# Altium footprint library AB5301A.PcbLib: 18 footprints (part 2 of 2)
Each footprint in its own frame and in the unit in brackets; x right, y up, seen from the top. Pads: shape width x height; smd on the part's side, far side on the other; paste and mask are expansions set on the pad; w line width, h text height; cw(c..) or ccw(c..) is an arc to the next point about the centre after c.
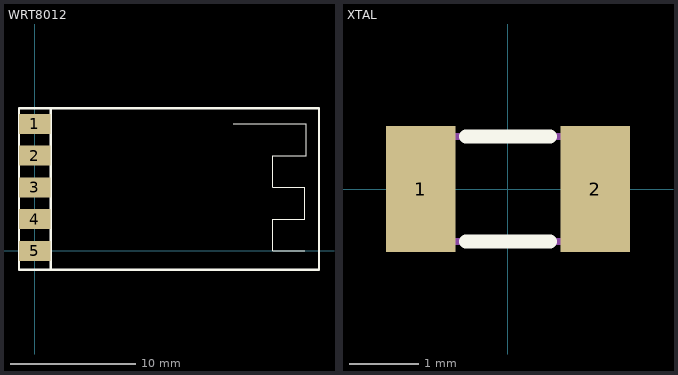
[diagram p1: the footprints below, top view; thin cyan lines are the x and y axes]

## WRT8012 [mm]
pads (5):
  rect 2.5x1.6 smd: 1(0,10.16) 2(0,7.62) 3(0,5.08) 4(0,2.54) 5(0,0)
Top Overlay:
  lines w0.1: 15.875,10.16 21.717,10.16 21.717,7.62 19.05,7.62 19.05,5.08 21.59,5.08 21.59,2.54 19.05,2.54 19.05,0 21.59,0
  lines w0.2: -1.27,-1.524 -1.27,11.43 ; -1.27,-1.524 1.27,-1.524 1.27,11.43 -1.27,11.43 ; -1.27,-1.524 22.733,-1.524 22.733,11.43 -1.27,11.43

## XTAL [mm]
pads (2):
  rect 1x1.8 smd: 1(-1.25,0) 2(1.25,0)
Top Overlay:
  lines w0.2: -0.6,-0.75 0.6,-0.75 ; -0.6,0.75 0.6,0.75
Mechanical 3:
  lines w0.1: -1.6,-0.55 cw(c-1.6,-0.75) -1.4,-0.75 1.4,-0.75 cw(c1.6,-0.75) 1.6,-0.55 1.6,0.55 cw(c1.6,0.75) 1.4,0.75 -1.4,0.75 cw(c-1.6,0.75) -1.6,0.55 -1.6,-0.55
3D body "User Library-Siward_SX3215.step": height 0.81, standoff 0, extent -1.6,-0.75 1.6,0.75
3D body: height 0.81, standoff 0.15, extent -1.2,-0.6 1.2,0.6